# EAGLE library part 4094 (library ng)
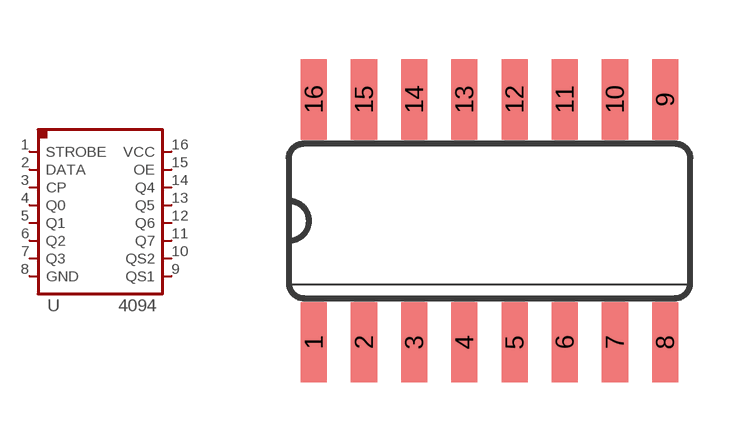
[diagram p4: symbol with the pads of SO16; footprint SO16]

Designator prefix -

## 4094SO16  [SO16]
1  STROBE
2  DATA
3  CP
4  Q0
5  Q1
6  Q2
7  Q3
8  GND
9  QS1
10  QS2
11  Q7
12  Q6
13  Q5
14  Q4
15  OE
16  VCC

## Footprint SO16 (pad centres in mm)
Small Outline package 150 mil
smd 0.66 x 2.032: 1 -4.445,-3.073; 2 -3.175,-3.073; 3 -1.905,-3.073; 4 -0.635,-3.073; 5 0.635,-3.073; 6 1.905,-3.073; 7 3.175,-3.073; 8 4.445,-3.073; 9 4.445,3.073; 10 3.175,3.073; 11 1.905,3.073; 12 0.635,3.073; 13 -0.635,3.073; 14 -1.905,3.073; 15 -3.175,3.073; 16 -4.445,3.073